# EAGLE library part STM32F030F4 (library synic)
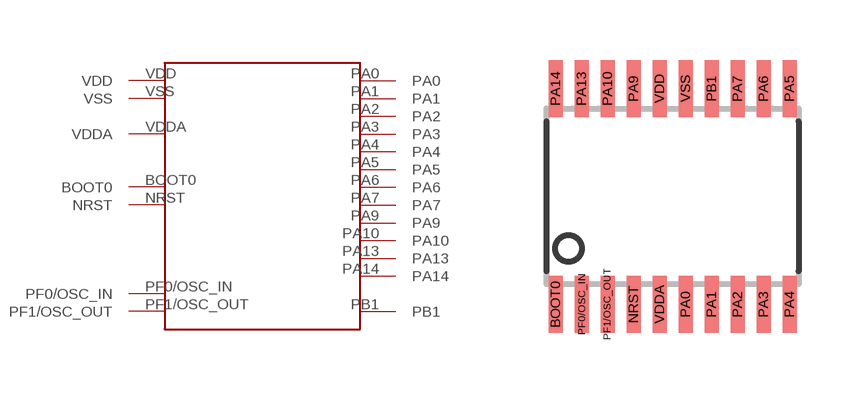
[diagram p0: symbol with the pads of TSSOP-20; footprint TSSOP-20]

Designator prefix -

## STM32F030F4  [TSSOP-20]
BOOT0  BOOT0  in
NRST  NRST  in
PA0  PA0
PA1  PA1
PA2  PA2
PA3  PA3
PA4  PA4
PA5  PA5
PA6  PA6
PA7  PA7
PA9  PA9
PA10  PA10
PA13  PA13
PA14  PA14
PB1  PB1
PF0/OSC_IN  PF0/OSC_IN  in
PF1/OSC_OUT  PF1/OSC_OUT  out
VDD  VDD  pwr
VDDA  VDDA  pwr
VSS  VSS  pwr

## Footprint TSSOP-20 (pad centres in mm)
Pad size: 0.35 x 1.43 mm Pad pitch: 0.65 mm Pad lateral pitch: 5.4 mm
smd 0.35 x 1.43: BOOT0 -2.925,-2.7; NRST -0.975,-2.7; PA0 0.325,-2.7; PA1 0.975,-2.7; PA2 1.625,-2.7; PA3 2.275,-2.7; PA4 2.925,-2.7; PA5 2.925,2.7; PA6 2.275,2.7; PA7 1.625,2.7; PA9 -0.975,2.7; PA10 -1.625,2.7; PA13 -2.275,2.7; PA14 -2.925,2.7; PB1 0.975,2.7; PF0/OSC_IN -2.275,-2.7; PF1/OSC_OUT -1.625,-2.7; VDD -0.325,2.7; VDDA -0.325,-2.7; VSS 0.325,2.7